# EAGLE library part STM32-32P-?* (library CougsInSpace-IC-µController)
STM 32b µController - 32 Pin Base STM32L4Kx <https://github.com/CougsInSpace/Resources/blob/master/SupplierDocuments/ST/STM32L432.pdf>
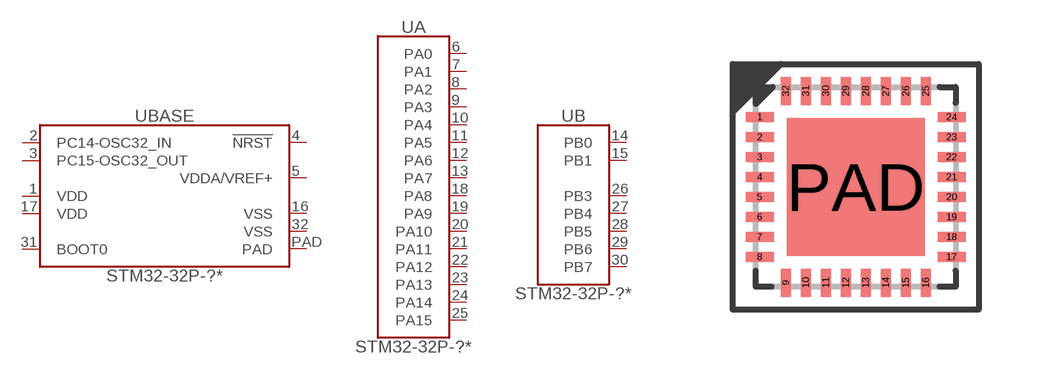
[diagram p2: symbol with the pads of QFN-32-5050; footprint QFN-32-5050]

Designator prefix U; gates BASE=STM32BASE-32 A=GPIO_A-16 B=GPIO_B-8-2

## STM32-32P-L432KCU (FLASH: 256kB; SKU: 61-0001; VALUE: STM32L432KCU)  [QFN-32-5050]
1  BASE:VDD  pwr
2  BASE:PC14-OSC32_IN
3  BASE:PC15-OSC32_OUT
4  BASE:!NRST  in
5  BASE:VDDA/VREF+  pwr
6  A:PA0
7  A:PA1
8  A:PA2
9  A:PA3
10  A:PA4
11  A:PA5
12  A:PA6
13  A:PA7
14  B:PB0
15  B:PB1
16  BASE:VSS  pwr
17  BASE:VDD  pwr
18  A:PA8
19  A:PA9
20  A:PA10
21  A:PA11
22  A:PA12
23  A:PA13
24  A:PA14
25  A:PA15
26  B:PB3
27  B:PB4
28  B:PB5
29  B:PB6
30  B:PB7
31  BASE:BOOT0  in
32  BASE:VSS  pwr
PAD  BASE:PAD  pas

## Footprint QFN-32-5050 (pad centres in mm)
Quad Flat No-Leads (QFN) - 32 pins - 5.0 x 5.0 mm
smd 0.7 x 0.25: 1 -2.4,1.75; 2 -2.4,1.25; 3 -2.4,0.75; 4 -2.4,0.25; 5 -2.4,-0.25; 6 -2.4,-0.75; 7 -2.4,-1.25; 8 -2.4,-1.75; 17 2.4,-1.75; 18 2.4,-1.25; 19 2.4,-0.75; 20 2.4,-0.25; 21 2.4,0.25; 22 2.4,0.75; 23 2.4,1.25; 24 2.4,1.75
smd 0.25 x 0.7: 9 -1.75,-2.4; 10 -1.25,-2.4; 11 -0.75,-2.4; 12 -0.25,-2.4; 13 0.25,-2.4; 14 0.75,-2.4; 15 1.25,-2.4; 16 1.75,-2.4; 25 1.75,2.4; 26 1.25,2.4; 27 0.75,2.4; 28 0.25,2.4; 29 -0.25,2.4; 30 -0.75,2.4; 31 -1.25,2.4; 32 -1.75,2.4
smd 3.45 x 3.45: PAD 0,0